# EAGLE library part TSL2561 (library Pinoccio)
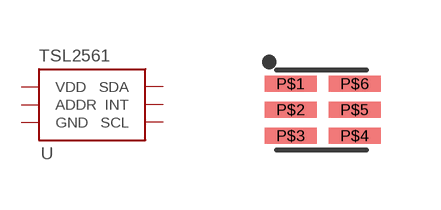
[diagram p20: symbol with the pads of TSL2561; footprint TSL2561]

Designator prefix -

## TSL2561FN  [TSL2561]
P$1  VDD  pwr
P$2  ADDR  in
P$3  GND
P$4  SCL
P$5  INT  out
P$6  SDA

## Footprint TSL2561 (pad centres in mm)
smd 1.3 x 0.4: P$1 0.65,1.5; P$2 0.65,0.85; P$3 0.65,0.2; P$4 2.25,0.2; P$5 2.25,0.85; P$6 2.25,1.5